# Altium integrated library TI Amplifiers and Linear Special Function Amplifier.IntLib: 708 symbols (part 27 of 47)
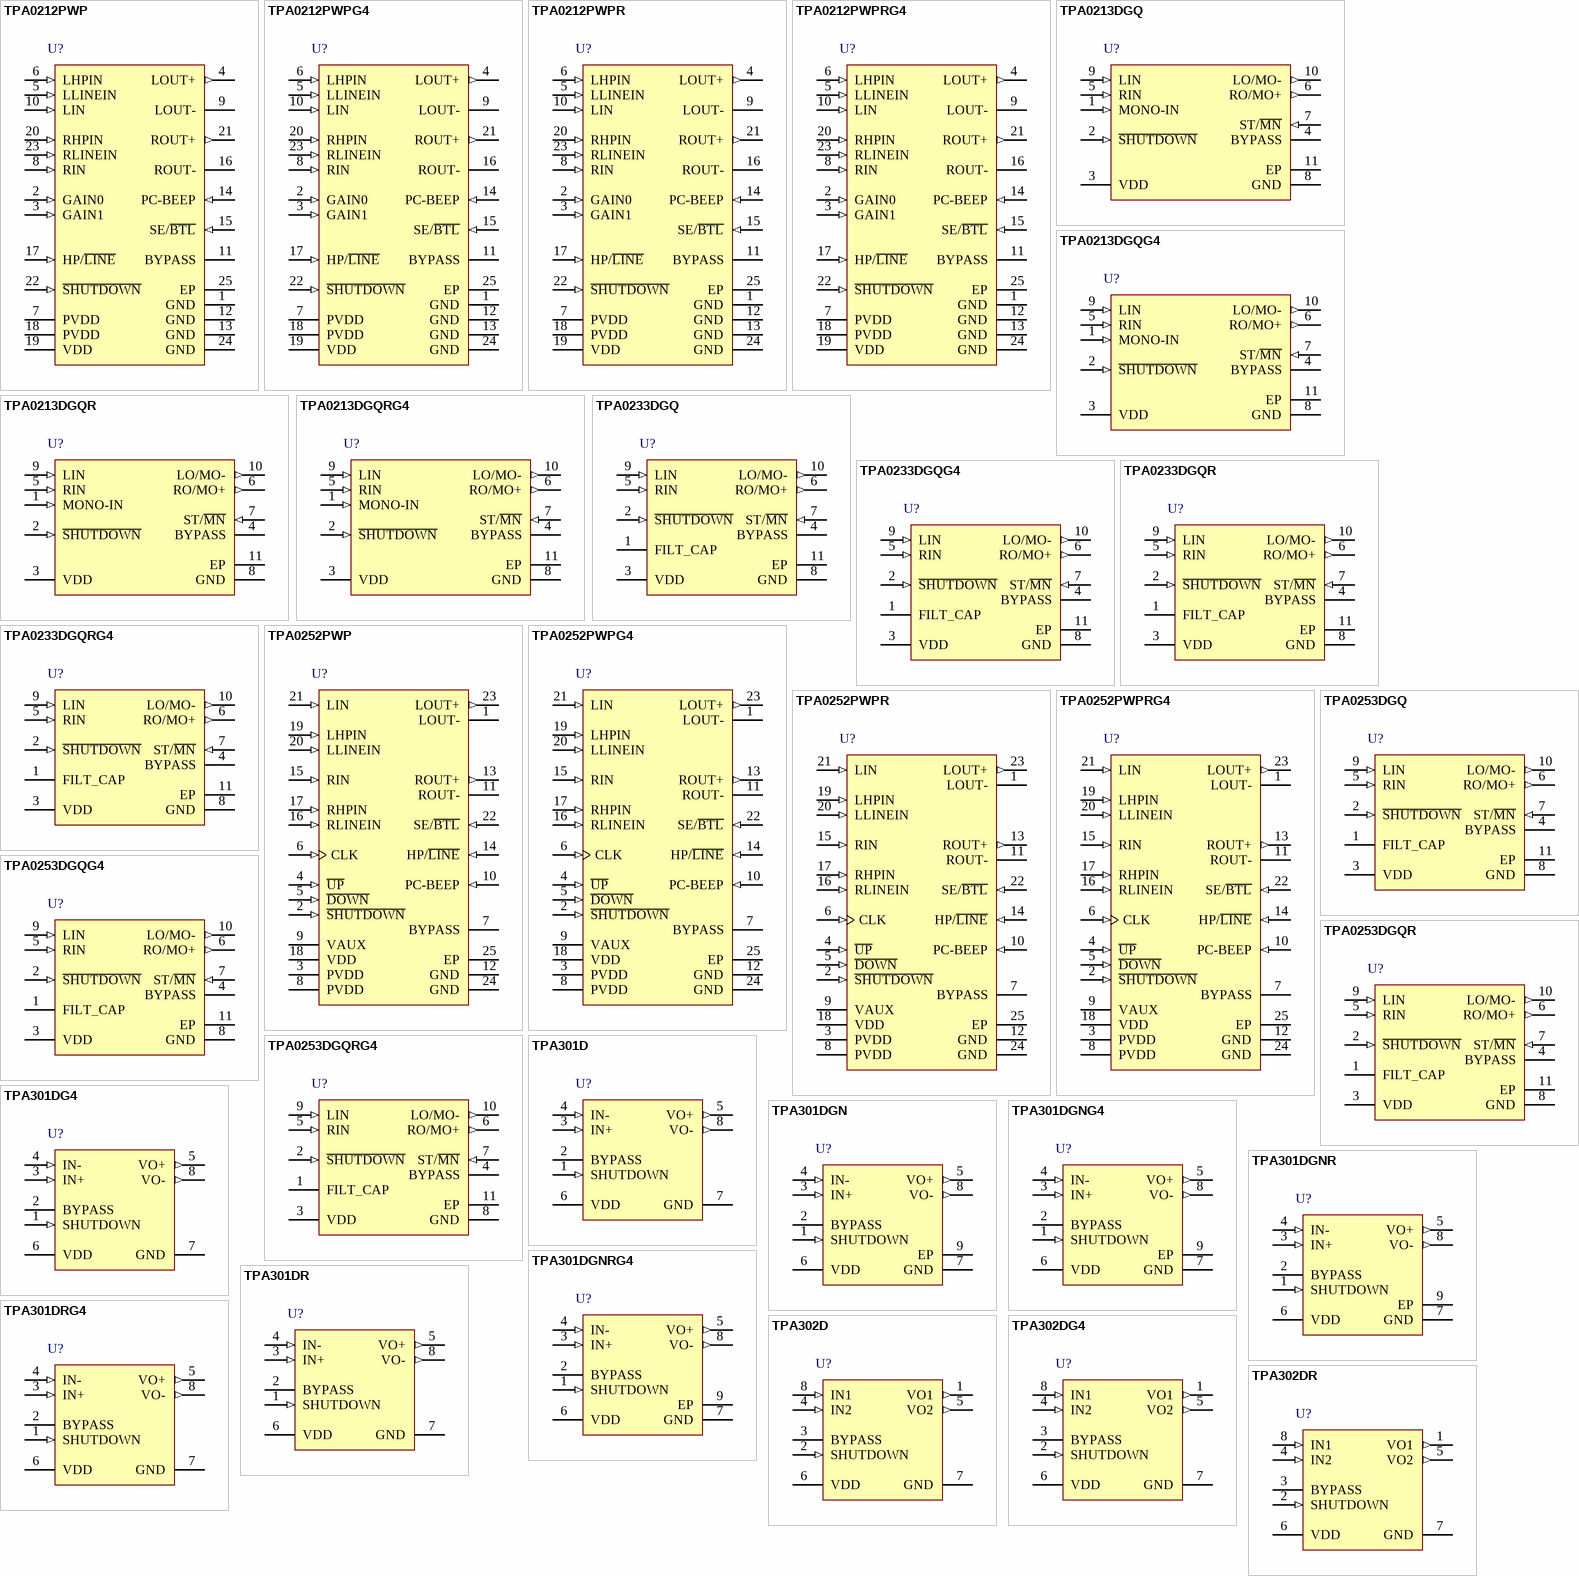
[diagram p65: symbols TPA0212PWP to TPA302DR]

## TPA301DGNR
designator U?
350-mW Mono Class-AB Audio Amplifier, -40 to 85 degC, 8-pin SOP (DGN8), Green (RoHS & no Sb/Br); Manufacturer: Texas Instruments; PartNumber: TPA301DGNR; Output Power(W): 0.35; PSRR(dB): 78; SubFamily: Dynamic Speaker; Supply Max(Max)(Volt): 5.5; Supply Min(Min)(Volt): 2.5; DatasheetVersion: SLOS208E; PackageVersion: 4073271/F, 05/2011; PackageReference: DGN8-1760X1425TP; PackageDescription: 8-Pin Plastic Small Outline, Body 3 x 3 mm, Pitch 0.65 mm; Supplier 1: Digi-Key; Supplier Part Number 1: TPA301DGNR-ND; Supplier 2: Mouser; Supplier Part Number 2: 595-TPA301DGNR; Eco-Plan: Green (RoHS & no Sb/Br); Speaker Amp Type: Class-AB; Speaker Channels: Mono; Mounting Technology: Surface Mount; Code_JEDEC: MO-187; ComponentLink1Description: Manufacturer URL; ComponentLink1URL: http://www.ti.com/; ComponentLink2Description: Datasheet; ComponentLink2URL: http://www.ti.com/general/docs/lit/getliterature.tsp?genericPartNumber=TPA301&fileType=pdf; ComponentLink3Description: Package Specification; ComponentLink3URL: http://www.ti.com/litv/pdf/mpds046e
footprint TI-DGN8-1760X1425TP_N (SOP, 8-Leads, Body 3.1x3.1mm, Pitch 0.65mm, Thermal Pad 1.89x1.57mm, IPC Medium Density)
footprint TI-DGN8-1760X1425TP_L (SOP, 8-Leads, Body 3.1x3.1mm, Pitch 0.65mm, Thermal Pad 1.89x1.57mm, IPC High Density)
footprint TI-DGN8-1760X1425TP_M (SOP, 8-Leads, Body 3.1x3.1mm, Pitch 0.65mm, Thermal Pad 1.89x1.57mm, IPC Low Density)
pins: 1 SHUTDOWN (in) "SHUTDOWN places the entire device in shutdown mode when held high.", 2 BYPASS "BYPASS is the tap to the voltage divider for internal mid-supply bias.", 3 IN+ (in) "IN+ is the noninverting input. IN+ is typically tied to the BYPASS terminal.", 4 IN- (in) "IN- is the inverting input. IN- is typically used as the audio input terminal.", 5 VO+ (out) "VO+ is the positive BTL output.", 6 VDD (power) "VDD is the supply voltage terminal.", 7 GND (power) "GND is the ground connection.", 8 VO- (out) "VO- is the negative BTL output.", 9 EP

## TPA301DGNRG4
designator U?
350-mW Mono Class-AB Audio Amplifier, -40 to 85 degC, 8-pin SOP (DGN8), Green (RoHS & no Sb/Br); Manufacturer: Texas Instruments; PartNumber: TPA301DGNRG4; Output Power(W): 0.35; PSRR(dB): 78; SubFamily: Dynamic Speaker; Supply Max(Max)(Volt): 5.5; Supply Min(Min)(Volt): 2.5; DatasheetVersion: SLOS208E; PackageVersion: 4073271/F, 05/2011; PackageReference: DGN8-1760X1425TP; PackageDescription: 8-Pin Plastic Small Outline, Body 3 x 3 mm, Pitch 0.65 mm; Supplier 1: Digi-Key; Supplier Part Number 1: TPA301DGNRG4-ND; Supplier 2: Mouser; Supplier Part Number 2: 595-TPA301DGNRG4; Eco-Plan: Green (RoHS & no Sb/Br); Speaker Amp Type: Class-AB; Speaker Channels: Mono; Mounting Technology: Surface Mount; Code_JEDEC: MO-187; ComponentLink1Description: Manufacturer URL; ComponentLink1URL: http://www.ti.com/; ComponentLink2Description: Datasheet; ComponentLink2URL: http://www.ti.com/general/docs/lit/getliterature.tsp?genericPartNumber=TPA301&fileType=pdf; ComponentLink3Description: Package Specification; ComponentLink3URL: http://www.ti.com/litv/pdf/mpds046e
footprint TI-DGN8-1760X1425TP_N (SOP, 8-Leads, Body 3.1x3.1mm, Pitch 0.65mm, Thermal Pad 1.89x1.57mm, IPC Medium Density)
footprint TI-DGN8-1760X1425TP_L (SOP, 8-Leads, Body 3.1x3.1mm, Pitch 0.65mm, Thermal Pad 1.89x1.57mm, IPC High Density)
footprint TI-DGN8-1760X1425TP_M (SOP, 8-Leads, Body 3.1x3.1mm, Pitch 0.65mm, Thermal Pad 1.89x1.57mm, IPC Low Density)
pins: 1 SHUTDOWN (in) "SHUTDOWN places the entire device in shutdown mode when held high.", 2 BYPASS "BYPASS is the tap to the voltage divider for internal mid-supply bias.", 3 IN+ (in) "IN+ is the noninverting input. IN+ is typically tied to the BYPASS terminal.", 4 IN- (in) "IN- is the inverting input. IN- is typically used as the audio input terminal.", 5 VO+ (out) "VO+ is the positive BTL output.", 6 VDD (power) "VDD is the supply voltage terminal.", 7 GND (power) "GND is the ground connection.", 8 VO- (out) "VO- is the negative BTL output.", 9 EP

## TPA301DR
designator U?
350-mW Mono Class-AB Audio Amplifier, -40 to 85 degC, 8-pin SOIC (D8), Green (RoHS & no Sb/Br); Manufacturer: Texas Instruments; PartNumber: TPA301DR; Output Power(W): 0.35; PSRR(dB): 78; SubFamily: Dynamic Speaker; Supply Max(Max)(Volt): 5.5; Supply Min(Min)(Volt): 2.5; DatasheetVersion: SLOS208E; PackageVersion: 4040047-3/M, 06/2011; PackageReference: D8; PackageDescription: 8-Pin Plastic Small Outline, Body 4.9 x 3.9 mm, Pitch 1.27 mm; Supplier 1: Digi-Key; Supplier Part Number 1: 296-1945-2-ND; Supplier 2: Digi-Key; Supplier Part Number 2: 296-1945-1-ND; Supplier 3: Digi-Key; Supplier Part Number 3: 296-1945-6-ND; Supplier 4: Newark; Supplier Part Number 4: 86W6301; Supplier 5: Newark; Supplier Part Number 5: 76C9795; Supplier 6: Mouser; Supplier Part Number 6: 595-TPA301DR; Eco-Plan: Green (RoHS & no Sb/Br); Speaker Amp Type: Class-AB; Speaker Channels: Mono; Mounting Technology: Surface Mount; Code_JEDEC: MS-012; ComponentLink1Description: Manufacturer URL; ComponentLink1URL: http://www.ti.com/; ComponentLink2Description: Datasheet; ComponentLink2URL: http://www.ti.com/general/docs/lit/getliterature.tsp?genericPartNumber=TPA301&fileType=pdf; ComponentLink3Description: Package Specification; ComponentLink3URL: http://www.ti.com/litv/pdf/msoi002j
footprint TI-D8_N (SOIC, 8-Leads, Body 5x4mm, Pitch 1.27mm, IPC Medium Density)
footprint TI-D8_L (SOIC, 8-Leads, Body 5x4mm, Pitch 1.27mm, IPC High Density)
footprint TI-D8_M (SOIC, 8-Leads, Body 5x4mm, Pitch 1.27mm, IPC Low Density)
pins: 1 SHUTDOWN (in) "SHUTDOWN places the entire device in shutdown mode when held high.", 2 BYPASS "BYPASS is the tap to the voltage divider for internal mid-supply bias. This terminal should be connected to a 0.1-uF to 2.2-uF capacitor when used as an audio amplifier.", 3 IN+ (in) "IN+ is the noninverting input. IN+ is typically tied to the BYPASS terminal.", 4 IN- (in) "IN- is the inverting input. IN- is typically used as the audio input terminal.", 5 VO+ (out) "VO+ is the positive BTL output.", 6 VDD (power) "VDD is the supply voltage terminal.", 7 GND (power) "GND is the ground connection.", 8 VO- (out) "VO- is the negative BTL output."

## TPA301DRG4
designator U?
350-mW Mono Class-AB Audio Amplifier, -40 to 85 degC, 8-pin SOIC (D8), Green (RoHS & no Sb/Br); Manufacturer: Texas Instruments; PartNumber: TPA301DRG4; Output Power(W): 0.35; PSRR(dB): 78; SubFamily: Dynamic Speaker; Supply Max(Max)(Volt): 5.5; Supply Min(Min)(Volt): 2.5; DatasheetVersion: SLOS208E; PackageVersion: 4040047-3/M, 06/2011; PackageReference: D8; PackageDescription: 8-Pin Plastic Small Outline, Body 4.9 x 3.9 mm, Pitch 1.27 mm; Supplier 1: Digi-Key; Supplier Part Number 1: TPA301DRG4-ND; Supplier 2: Newark; Supplier Part Number 2: 54K1489; Supplier 3: Mouser; Supplier Part Number 3: 595-TPA301DRG4; Eco-Plan: Green (RoHS & no Sb/Br); Speaker Amp Type: Class-AB; Speaker Channels: Mono; Mounting Technology: Surface Mount; Code_JEDEC: MS-012; ComponentLink1Description: Manufacturer URL; ComponentLink1URL: http://www.ti.com/; ComponentLink2Description: Datasheet; ComponentLink2URL: http://www.ti.com/general/docs/lit/getliterature.tsp?genericPartNumber=TPA301&fileType=pdf; ComponentLink3Description: Package Specification; ComponentLink3URL: http://www.ti.com/litv/pdf/msoi002j
footprint TI-D8_N (SOIC, 8-Leads, Body 5x4mm, Pitch 1.27mm, IPC Medium Density)
footprint TI-D8_L (SOIC, 8-Leads, Body 5x4mm, Pitch 1.27mm, IPC High Density)
footprint TI-D8_M (SOIC, 8-Leads, Body 5x4mm, Pitch 1.27mm, IPC Low Density)
pins: 1 SHUTDOWN (in) "SHUTDOWN places the entire device in shutdown mode when held high.", 2 BYPASS "BYPASS is the tap to the voltage divider for internal mid-supply bias. This terminal should be connected to a 0.1-uF to 2.2-uF capacitor when used as an audio amplifier.", 3 IN+ (in) "IN+ is the noninverting input. IN+ is typically tied to the BYPASS terminal.", 4 IN- (in) "IN- is the inverting input. IN- is typically used as the audio input terminal.", 5 VO+ (out) "VO+ is the positive BTL output.", 6 VDD (power) "VDD is the supply voltage terminal.", 7 GND (power) "GND is the ground connection.", 8 VO- (out) "VO- is the negative BTL output."

## TPA302D
designator U?
300-mW Stereo Class-AB Audio Amplifier, -40 to 85 degC, 8-pin SOIC (D8), Green (RoHS & no Sb/Br); Manufacturer: Texas Instruments; PartNumber: TPA302D; Output Power(W): 0.3; PSRR(dB): 65; SubFamily: Dynamic Speaker; Supply Max(Max)(Volt): 5.5; Supply Min(Min)(Volt): 2.7; DatasheetVersion: SLOS174C; PackageVersion: 4040047-3/M, 06/2011; PackageReference: D8; PackageDescription: 8-Pin Plastic Small Outline, Body 4.9 x 3.9 mm, Pitch 1.27 mm; Supplier 1: Digi-Key; Supplier Part Number 1: 296-7011-5-ND; Supplier 2: Newark; Supplier Part Number 2: 76C9797; Supplier 3: Mouser; Supplier Part Number 3: 595-TPA302D; Eco-Plan: Green (RoHS & no Sb/Br); Speaker Amp Type: Class-AB; Speaker Channels: Stereo; Mounting Technology: Surface Mount; Code_JEDEC: MS-012; ComponentLink1Description: Manufacturer URL; ComponentLink1URL: http://www.ti.com/; ComponentLink2Description: Datasheet; ComponentLink2URL: http://www.ti.com/general/docs/lit/getliterature.tsp?genericPartNumber=TPA302&fileType=pdf; ComponentLink3Description: Package Specification; ComponentLink3URL: http://www.ti.com/litv/pdf/msoi002j
footprint TI-D8_N (SOIC, 8-Leads, Body 5x4mm, Pitch 1.27mm, IPC Medium Density)
footprint TI-D8_L (SOIC, 8-Leads, Body 5x4mm, Pitch 1.27mm, IPC High Density)
footprint TI-D8_M (SOIC, 8-Leads, Body 5x4mm, Pitch 1.27mm, IPC Low Density)
pins: 1 VO1 (out), 2 SHUTDOWN (in), 3 BYPASS, 4 IN2 (in), 5 VO2 (out), 6 VDD (power), 7 GND (power), 8 IN1 (in)

## TPA302DG4
designator U?
300-mW Stereo Class-AB Audio Amplifier, -40 to 85 degC, 8-pin SOIC (D8), Green (RoHS & no Sb/Br); Manufacturer: Texas Instruments; PartNumber: TPA302DG4; Output Power(W): 0.3; PSRR(dB): 65; SubFamily: Dynamic Speaker; Supply Max(Max)(Volt): 5.5; Supply Min(Min)(Volt): 2.7; DatasheetVersion: SLOS174C; PackageVersion: 4040047-3/M, 06/2011; PackageReference: D8; PackageDescription: 8-Pin Plastic Small Outline, Body 4.9 x 3.9 mm, Pitch 1.27 mm; Supplier 1: Digi-Key; Supplier Part Number 1: TPA302DG4-ND; Supplier 2: Mouser; Supplier Part Number 2: 595-TPA302DG4; Eco-Plan: Green (RoHS & no Sb/Br); Speaker Amp Type: Class-AB; Speaker Channels: Stereo; Mounting Technology: Surface Mount; Code_JEDEC: MS-012; ComponentLink1Description: Manufacturer URL; ComponentLink1URL: http://www.ti.com/; ComponentLink2Description: Datasheet; ComponentLink2URL: http://www.ti.com/general/docs/lit/getliterature.tsp?genericPartNumber=TPA302&fileType=pdf; ComponentLink3Description: Package Specification; ComponentLink3URL: http://www.ti.com/litv/pdf/msoi002j
footprint TI-D8_N (SOIC, 8-Leads, Body 5x4mm, Pitch 1.27mm, IPC Medium Density)
footprint TI-D8_L (SOIC, 8-Leads, Body 5x4mm, Pitch 1.27mm, IPC High Density)
footprint TI-D8_M (SOIC, 8-Leads, Body 5x4mm, Pitch 1.27mm, IPC Low Density)
pins: 1 VO1 (out), 2 SHUTDOWN (in), 3 BYPASS, 4 IN2 (in), 5 VO2 (out), 6 VDD (power), 7 GND (power), 8 IN1 (in)

## TPA302DR
designator U?
300-mW Stereo Class-AB Audio Amplifier, -40 to 85 degC, 8-pin SOIC (D8), Green (RoHS & no Sb/Br); Manufacturer: Texas Instruments; PartNumber: TPA302DR; Output Power(W): 0.3; PSRR(dB): 65; SubFamily: Dynamic Speaker; Supply Max(Max)(Volt): 5.5; Supply Min(Min)(Volt): 2.7; DatasheetVersion: SLOS174C; PackageVersion: 4040047-3/M, 06/2011; PackageReference: D8; PackageDescription: 8-Pin Plastic Small Outline, Body 4.9 x 3.9 mm, Pitch 1.27 mm; Supplier 1: Digi-Key; Supplier Part Number 1: TPA302DR-ND; Supplier 2: Mouser; Supplier Part Number 2: 595-TPA302DR; Eco-Plan: Green (RoHS & no Sb/Br); Speaker Amp Type: Class-AB; Speaker Channels: Stereo; Mounting Technology: Surface Mount; Code_JEDEC: MS-012; ComponentLink1Description: Manufacturer URL; ComponentLink1URL: http://www.ti.com/; ComponentLink2Description: Datasheet; ComponentLink2URL: http://www.ti.com/general/docs/lit/getliterature.tsp?genericPartNumber=TPA302&fileType=pdf; ComponentLink3Description: Package Specification; ComponentLink3URL: http://www.ti.com/litv/pdf/msoi002j
footprint TI-D8_N (SOIC, 8-Leads, Body 5x4mm, Pitch 1.27mm, IPC Medium Density)
footprint TI-D8_L (SOIC, 8-Leads, Body 5x4mm, Pitch 1.27mm, IPC High Density)
footprint TI-D8_M (SOIC, 8-Leads, Body 5x4mm, Pitch 1.27mm, IPC Low Density)
pins: 1 VO1 (out), 2 SHUTDOWN (in), 3 BYPASS, 4 IN2 (in), 5 VO2 (out), 6 VDD (power), 7 GND (power), 8 IN1 (in)

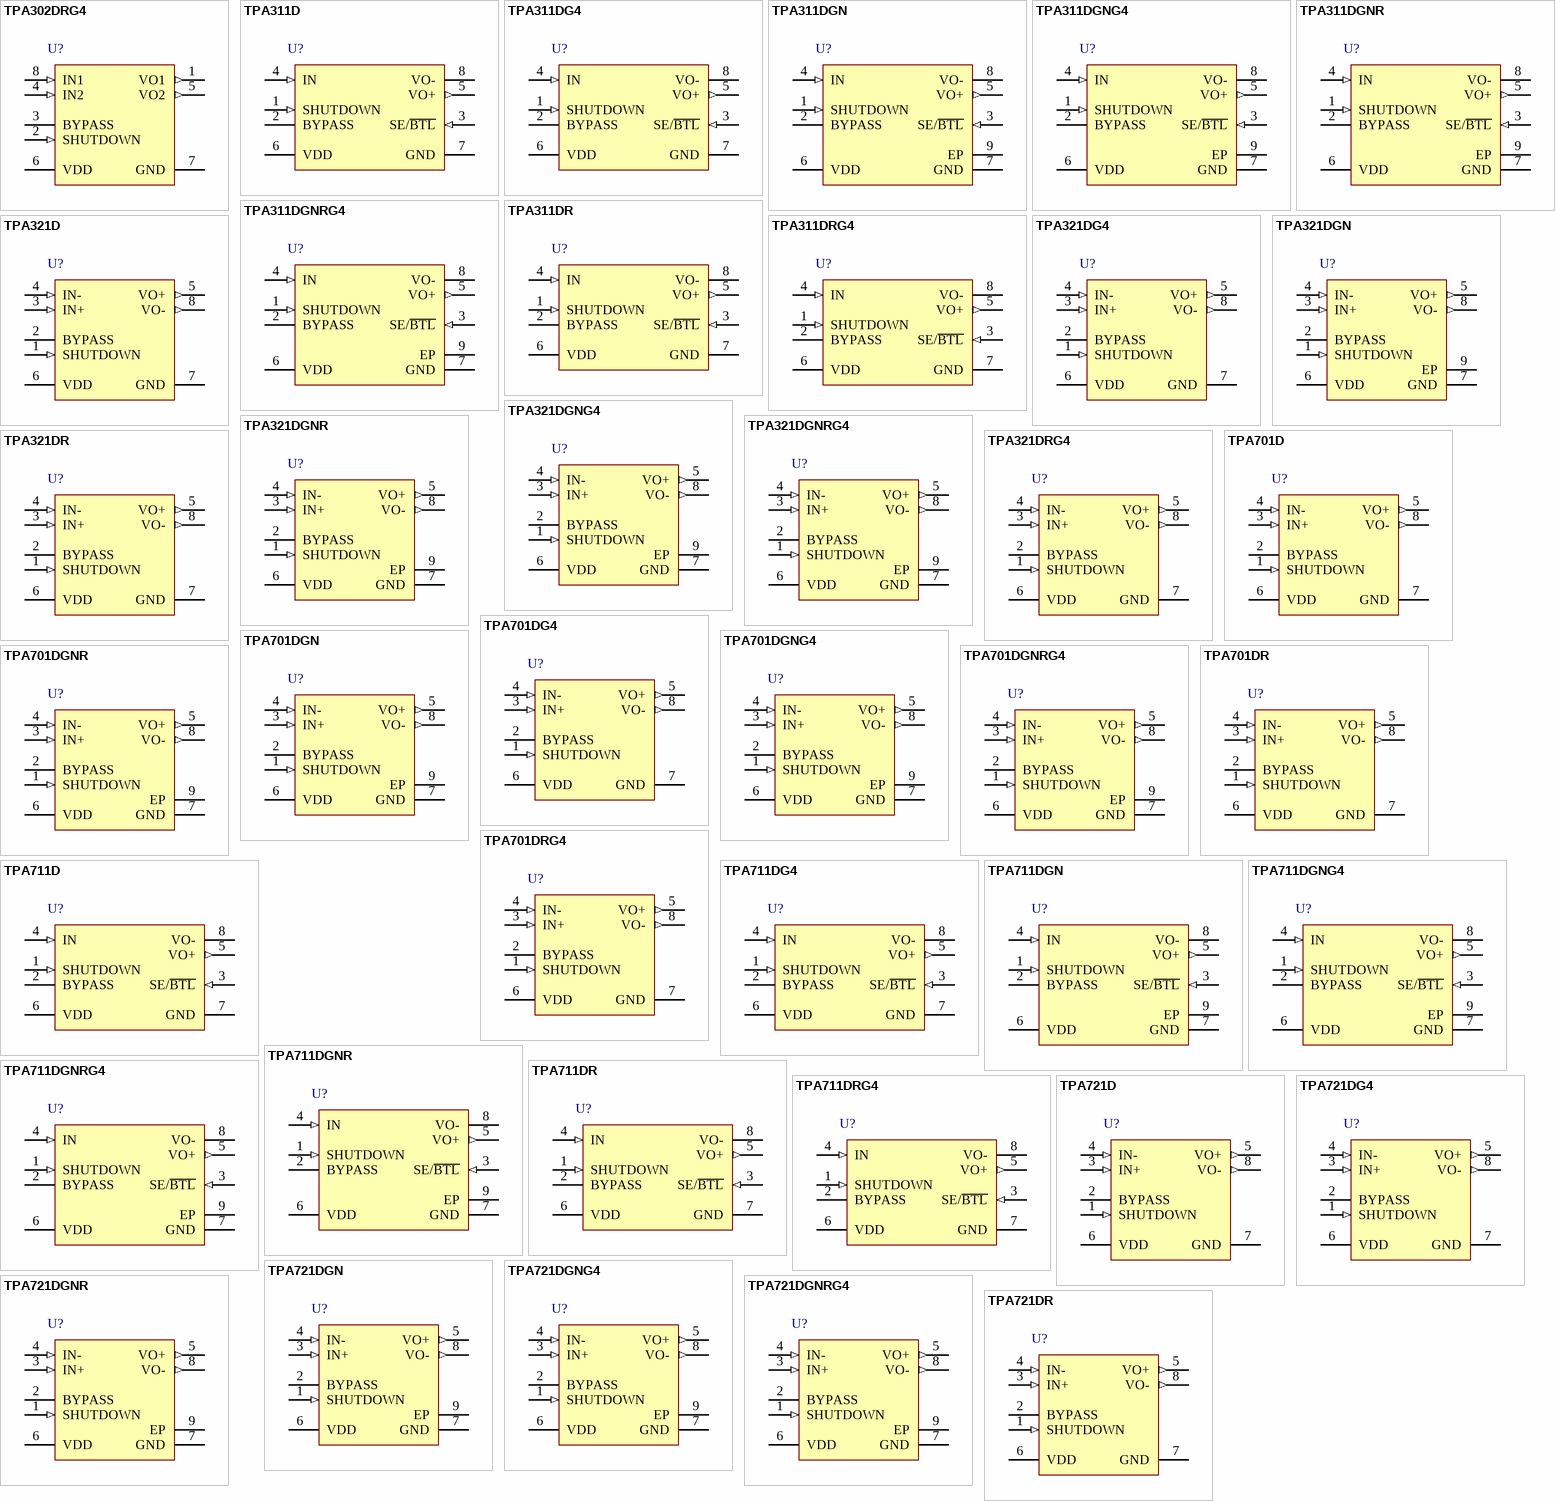
[diagram p25: symbols TPA302DRG4 to TPA721DR]

## TPA302DRG4
designator U?
300-mW Stereo Class-AB Audio Amplifier, -40 to 85 degC, 8-pin SOIC (D8), Green (RoHS & no Sb/Br); Manufacturer: Texas Instruments; PartNumber: TPA302DRG4; Output Power(W): 0.3; PSRR(dB): 65; SubFamily: Dynamic Speaker; Supply Max(Max)(Volt): 5.5; Supply Min(Min)(Volt): 2.7; DatasheetVersion: SLOS174C; PackageVersion: 4040047-3/M, 06/2011; PackageReference: D8; PackageDescription: 8-Pin Plastic Small Outline, Body 4.9 x 3.9 mm, Pitch 1.27 mm; Supplier 1: Digi-Key; Supplier Part Number 1: TPA302DRG4-ND; Supplier 2: Mouser; Supplier Part Number 2: 595-TPA302DRG4; Eco-Plan: Green (RoHS & no Sb/Br); Speaker Amp Type: Class-AB; Speaker Channels: Stereo; Mounting Technology: Surface Mount; Code_JEDEC: MS-012; ComponentLink1Description: Manufacturer URL; ComponentLink1URL: http://www.ti.com/; ComponentLink2Description: Datasheet; ComponentLink2URL: http://www.ti.com/general/docs/lit/getliterature.tsp?genericPartNumber=TPA302&fileType=pdf; ComponentLink3Description: Package Specification; ComponentLink3URL: http://www.ti.com/litv/pdf/msoi002j
footprint TI-D8_N (SOIC, 8-Leads, Body 5x4mm, Pitch 1.27mm, IPC Medium Density)
footprint TI-D8_L (SOIC, 8-Leads, Body 5x4mm, Pitch 1.27mm, IPC High Density)
footprint TI-D8_M (SOIC, 8-Leads, Body 5x4mm, Pitch 1.27mm, IPC Low Density)
pins: 1 VO1 (out), 2 SHUTDOWN (in), 3 BYPASS, 4 IN2 (in), 5 VO2 (out), 6 VDD (power), 7 GND (power), 8 IN1 (in)

## TPA311D
designator U?
350-mW Mono Class-AB Audio Amplifier, -40 to 85 degC, 8-pin SOIC (D8), Green (RoHS & no Sb/Br); Manufacturer: Texas Instruments; PartNumber: TPA311D; Output Power(W): 0.25; PSRR(dB): 85; SubFamily: Dynamic Speaker; Supply Max(Max)(Volt): 5.5; Supply Min(Min)(Volt): 2.5; DatasheetVersion: SLOS207C; PackageVersion: 4040047-3/M, 06/2011; PackageReference: D8; PackageDescription: 8-Pin Plastic Small Outline, Body 4.9 x 3.9 mm, Pitch 1.27 mm; Supplier 1: Digi-Key; Supplier Part Number 1: 296-1947-5-ND; Supplier 2: Newark; Supplier Part Number 2: 76C9800; Supplier 3: Mouser; Supplier Part Number 3: 595-TPA311D; Eco-Plan: Green (RoHS & no Sb/Br); Speaker Amp Type: Class-AB; Speaker Channels: Mono; Mounting Technology: Surface Mount; Code_JEDEC: MS-012; ComponentLink1Description: Manufacturer URL; ComponentLink1URL: http://www.ti.com/; ComponentLink2Description: Datasheet; ComponentLink2URL: http://www.ti.com/general/docs/lit/getliterature.tsp?genericPartNumber=TPA311&fileType=pdf; ComponentLink3Description: Package Specification; ComponentLink3URL: http://www.ti.com/litv/pdf/msoi002j
footprint TI-D8_N (SOIC, 8-Leads, Body 5x4mm, Pitch 1.27mm, IPC Medium Density)
footprint TI-D8_L (SOIC, 8-Leads, Body 5x4mm, Pitch 1.27mm, IPC High Density)
footprint TI-D8_M (SOIC, 8-Leads, Body 5x4mm, Pitch 1.27mm, IPC Low Density)
pins: 1 SHUTDOWN (in) "SHUTDOWN places the entire device in shutdown mode when held high.", 2 BYPASS "BYPASS is the tap to the voltage divider for internal mid-supply bias. This terminal should be connected to a capacitor when used as an audio amplifier.", 3 SE/~{BTL} (in) "When SE/B\T\L\ is held low, the TPAX11 is in BTL mode. When SE/B\T\L\ is held high, the TPAX11 is in SE mode.", 4 IN (in) "IN is the audio input terminal.", 5 VO+ (out) "VO+ is the positive output for BTL and SE modes.", 6 VDD (power) "VDD is the supply voltage terminal.", 7 GND (power) "GND is the ground connection.", 8 VO- (hiz) "VO- is the negative output in BTL mode and a high-impedance output in SE mode."

## TPA311DG4
designator U?
350-mW Mono Class-AB Audio Amplifier, -40 to 85 degC, 8-pin SOIC (D8), Green (RoHS & no Sb/Br); Manufacturer: Texas Instruments; PartNumber: TPA311DG4; Output Power(W): 0.25; PSRR(dB): 85; SubFamily: Dynamic Speaker; Supply Max(Max)(Volt): 5.5; Supply Min(Min)(Volt): 2.5; DatasheetVersion: SLOS207C; PackageVersion: 4040047-3/M, 06/2011; PackageReference: D8; PackageDescription: 8-Pin Plastic Small Outline, Body 4.9 x 3.9 mm, Pitch 1.27 mm; Supplier 1: Digi-Key; Supplier Part Number 1: TPA311DG4-ND; Supplier 2: Mouser; Supplier Part Number 2: 595-TPA311DG4; Eco-Plan: Green (RoHS & no Sb/Br); Speaker Amp Type: Class-AB; Speaker Channels: Mono; Mounting Technology: Surface Mount; Code_JEDEC: MS-012; ComponentLink1Description: Manufacturer URL; ComponentLink1URL: http://www.ti.com/; ComponentLink2Description: Datasheet; ComponentLink2URL: http://www.ti.com/general/docs/lit/getliterature.tsp?genericPartNumber=TPA311&fileType=pdf; ComponentLink3Description: Package Specification; ComponentLink3URL: http://www.ti.com/litv/pdf/msoi002j
footprint TI-D8_N (SOIC, 8-Leads, Body 5x4mm, Pitch 1.27mm, IPC Medium Density)
footprint TI-D8_L (SOIC, 8-Leads, Body 5x4mm, Pitch 1.27mm, IPC High Density)
footprint TI-D8_M (SOIC, 8-Leads, Body 5x4mm, Pitch 1.27mm, IPC Low Density)
pins: 1 SHUTDOWN (in) "SHUTDOWN places the entire device in shutdown mode when held high.", 2 BYPASS "BYPASS is the tap to the voltage divider for internal mid-supply bias. This terminal should be connected to a capacitor when used as an audio amplifier.", 3 SE/~{BTL} (in) "When SE/B\T\L\ is held low, the TPAX11 is in BTL mode. When SE/B\T\L\ is held high, the TPAX11 is in SE mode.", 4 IN (in) "IN is the audio input terminal.", 5 VO+ (out) "VO+ is the positive output for BTL and SE modes.", 6 VDD (power) "VDD is the supply voltage terminal.", 7 GND (power) "GND is the ground connection.", 8 VO- (hiz) "VO- is the negative output in BTL mode and a high-impedance output in SE mode."

## TPA311DGN
designator U?
350-mW Mono Class-AB Audio Amplifier, -40 to 85 degC, 8-pin SOP (DGN8), Green (RoHS & no Sb/Br); Manufacturer: Texas Instruments; PartNumber: TPA311DGN; Output Power(W): 0.25; PSRR(dB): 85; SubFamily: Dynamic Speaker; Supply Max(Max)(Volt): 5.5; Supply Min(Min)(Volt): 2.5; DatasheetVersion: SLOS207C; PackageVersion: 4073271/F, 05/2011; PackageReference: DGN8-1760X1425TP; PackageDescription: 8-Pin Plastic Small Outline, Body 3 x 3 mm, Pitch 0.65 mm; Supplier 1: Digi-Key; Supplier Part Number 1: 296-1948-5-ND; Supplier 2: Newark; Supplier Part Number 2: 76C9801; Supplier 3: Mouser; Supplier Part Number 3: 595-TPA311DGN; Eco-Plan: Green (RoHS & no Sb/Br); Speaker Amp Type: Class-AB; Speaker Channels: Mono; Mounting Technology: Surface Mount; Code_JEDEC: MO-187; ComponentLink1Description: Manufacturer URL; ComponentLink1URL: http://www.ti.com/; ComponentLink2Description: Datasheet; ComponentLink2URL: http://www.ti.com/general/docs/lit/getliterature.tsp?genericPartNumber=TPA311&fileType=pdf; ComponentLink3Description: Package Specification; ComponentLink3URL: http://www.ti.com/litv/pdf/mpds046e
footprint TI-DGN8-1760X1425TP_N (SOP, 8-Leads, Body 3.1x3.1mm, Pitch 0.65mm, Thermal Pad 1.89x1.57mm, IPC Medium Density)
footprint TI-DGN8-1760X1425TP_L (SOP, 8-Leads, Body 3.1x3.1mm, Pitch 0.65mm, Thermal Pad 1.89x1.57mm, IPC High Density)
footprint TI-DGN8-1760X1425TP_M (SOP, 8-Leads, Body 3.1x3.1mm, Pitch 0.65mm, Thermal Pad 1.89x1.57mm, IPC Low Density)
pins: 1 SHUTDOWN (in) "SHUTDOWN places the entire device in shutdown mode when held high", 2 BYPASS "BYPASS is the tap to the voltage divider for internal mid-supply bias.", 3 SE/~{BTL} (in) "When SE/B\T\L\ is held low, the TPA311 is in BTL mode. When SE/B\T\L\ is held high", 4 IN (in) "IN is the audio input terminal.", 5 VO+ (out) "VO+ is the positive output for BTL and SE modes.", 6 VDD (power) "VDD is the supply voltage terminal.", 7 GND (power) "GND is the ground connection.", 8 VO- (hiz) "VO- is the negative output in BTL mode and a high-impedance output in SE mode.", 9 EP

## TPA311DGNG4
designator U?
350-mW Mono Class-AB Audio Amplifier, -40 to 85 degC, 8-pin SOP (DGN8), Green (RoHS & no Sb/Br); Manufacturer: Texas Instruments; PartNumber: TPA311DGNG4; Output Power(W): 0.25; PSRR(dB): 85; SubFamily: Dynamic Speaker; Supply Max(Max)(Volt): 5.5; Supply Min(Min)(Volt): 2.5; DatasheetVersion: SLOS207C; PackageVersion: 4073271/F, 05/2011; PackageReference: DGN8-1760X1425TP; PackageDescription: 8-Pin Plastic Small Outline, Body 3 x 3 mm, Pitch 0.65 mm; Supplier 1: Digi-Key; Supplier Part Number 1: TPA311DGNG4-ND; Supplier 2: Mouser; Supplier Part Number 2: 595-TPA311DGNG4; Eco-Plan: Green (RoHS & no Sb/Br); Speaker Amp Type: Class-AB; Speaker Channels: Mono; Mounting Technology: Surface Mount; Code_JEDEC: MO-187; ComponentLink1Description: Manufacturer URL; ComponentLink1URL: http://www.ti.com/; ComponentLink2Description: Datasheet; ComponentLink2URL: http://www.ti.com/general/docs/lit/getliterature.tsp?genericPartNumber=TPA311&fileType=pdf; ComponentLink3Description: Package Specification; ComponentLink3URL: http://www.ti.com/litv/pdf/mpds046e
footprint TI-DGN8-1760X1425TP_N (SOP, 8-Leads, Body 3.1x3.1mm, Pitch 0.65mm, Thermal Pad 1.89x1.57mm, IPC Medium Density)
footprint TI-DGN8-1760X1425TP_L (SOP, 8-Leads, Body 3.1x3.1mm, Pitch 0.65mm, Thermal Pad 1.89x1.57mm, IPC High Density)
footprint TI-DGN8-1760X1425TP_M (SOP, 8-Leads, Body 3.1x3.1mm, Pitch 0.65mm, Thermal Pad 1.89x1.57mm, IPC Low Density)
pins: 1 SHUTDOWN (in) "SHUTDOWN places the entire device in shutdown mode when held high", 2 BYPASS "BYPASS is the tap to the voltage divider for internal mid-supply bias.", 3 SE/~{BTL} (in) "When SE/B\T\L\ is held low, the TPA311 is in BTL mode. When SE/B\T\L\ is held high", 4 IN (in) "IN is the audio input terminal.", 5 VO+ (out) "VO+ is the positive output for BTL and SE modes.", 6 VDD (power) "VDD is the supply voltage terminal.", 7 GND (power) "GND is the ground connection.", 8 VO- (hiz) "VO- is the negative output in BTL mode and a high-impedance output in SE mode.", 9 EP

## TPA311DGNR
designator U?
350-mW Mono Class-AB Audio Amplifier, -40 to 85 degC, 8-pin SOP (DGN8), Green (RoHS & no Sb/Br); Manufacturer: Texas Instruments; PartNumber: TPA311DGNR; Output Power(W): 0.25; PSRR(dB): 85; SubFamily: Dynamic Speaker; Supply Max(Max)(Volt): 5.5; Supply Min(Min)(Volt): 2.5; DatasheetVersion: SLOS207C; PackageVersion: 4073271/F, 05/2011; PackageReference: DGN8-1760X1425TP; PackageDescription: 8-Pin Plastic Small Outline, Body 3 x 3 mm, Pitch 0.65 mm; Supplier 1: Digi-Key; Supplier Part Number 1: TPA311DGNR-ND; Supplier 2: Newark; Supplier Part Number 2: 76C9802; Supplier 3: Mouser; Supplier Part Number 3: 595-TPA311DGNR; Eco-Plan: Green (RoHS & no Sb/Br); Speaker Amp Type: Class-AB; Speaker Channels: Mono; Mounting Technology: Surface Mount; Code_JEDEC: MO-187; ComponentLink1Description: Manufacturer URL; ComponentLink1URL: http://www.ti.com/; ComponentLink2Description: Datasheet; ComponentLink2URL: http://www.ti.com/general/docs/lit/getliterature.tsp?genericPartNumber=TPA311&fileType=pdf; ComponentLink3Description: Package Specification; ComponentLink3URL: http://www.ti.com/litv/pdf/mpds046e
footprint TI-DGN8-1760X1425TP_N (SOP, 8-Leads, Body 3.1x3.1mm, Pitch 0.65mm, Thermal Pad 1.89x1.57mm, IPC Medium Density)
footprint TI-DGN8-1760X1425TP_L (SOP, 8-Leads, Body 3.1x3.1mm, Pitch 0.65mm, Thermal Pad 1.89x1.57mm, IPC High Density)
footprint TI-DGN8-1760X1425TP_M (SOP, 8-Leads, Body 3.1x3.1mm, Pitch 0.65mm, Thermal Pad 1.89x1.57mm, IPC Low Density)
pins: 1 SHUTDOWN (in) "SHUTDOWN places the entire device in shutdown mode when held high", 2 BYPASS "BYPASS is the tap to the voltage divider for internal mid-supply bias.", 3 SE/~{BTL} (in) "When SE/B\T\L\ is held low, the TPA311 is in BTL mode. When SE/B\T\L\ is held high", 4 IN (in) "IN is the audio input terminal.", 5 VO+ (out) "VO+ is the positive output for BTL and SE modes.", 6 VDD (power) "VDD is the supply voltage terminal.", 7 GND (power) "GND is the ground connection.", 8 VO- (hiz) "VO- is the negative output in BTL mode and a high-impedance output in SE mode.", 9 EP

## TPA311DGNRG4
designator U?
350-mW Mono Class-AB Audio Amplifier, -40 to 85 degC, 8-pin SOP (DGN8), Green (RoHS & no Sb/Br); Manufacturer: Texas Instruments; PartNumber: TPA311DGNRG4; Output Power(W): 0.25; PSRR(dB): 85; SubFamily: Dynamic Speaker; Supply Max(Max)(Volt): 5.5; Supply Min(Min)(Volt): 2.5; DatasheetVersion: SLOS207C; PackageVersion: 4073271/F, 05/2011; PackageReference: DGN8-1760X1425TP; PackageDescription: 8-Pin Plastic Small Outline, Body 3 x 3 mm, Pitch 0.65 mm; Supplier 1: Digi-Key; Supplier Part Number 1: TPA311DGNRG4-ND; Supplier 2: Mouser; Supplier Part Number 2: 595-TPA311DGNRG4; Eco-Plan: Green (RoHS & no Sb/Br); Speaker Amp Type: Class-AB; Speaker Channels: Mono; Mounting Technology: Surface Mount; Code_JEDEC: MO-187; ComponentLink1Description: Manufacturer URL; ComponentLink1URL: http://www.ti.com/; ComponentLink2Description: Datasheet; ComponentLink2URL: http://www.ti.com/general/docs/lit/getliterature.tsp?genericPartNumber=TPA311&fileType=pdf; ComponentLink3Description: Package Specification; ComponentLink3URL: http://www.ti.com/litv/pdf/mpds046e
footprint TI-DGN8-1760X1425TP_N (SOP, 8-Leads, Body 3.1x3.1mm, Pitch 0.65mm, Thermal Pad 1.89x1.57mm, IPC Medium Density)
footprint TI-DGN8-1760X1425TP_L (SOP, 8-Leads, Body 3.1x3.1mm, Pitch 0.65mm, Thermal Pad 1.89x1.57mm, IPC High Density)
footprint TI-DGN8-1760X1425TP_M (SOP, 8-Leads, Body 3.1x3.1mm, Pitch 0.65mm, Thermal Pad 1.89x1.57mm, IPC Low Density)
pins: 1 SHUTDOWN (in) "SHUTDOWN places the entire device in shutdown mode when held high", 2 BYPASS "BYPASS is the tap to the voltage divider for internal mid-supply bias.", 3 SE/~{BTL} (in) "When SE/B\T\L\ is held low, the TPA311 is in BTL mode. When SE/B\T\L\ is held high", 4 IN (in) "IN is the audio input terminal.", 5 VO+ (out) "VO+ is the positive output for BTL and SE modes.", 6 VDD (power) "VDD is the supply voltage terminal.", 7 GND (power) "GND is the ground connection.", 8 VO- (hiz) "VO- is the negative output in BTL mode and a high-impedance output in SE mode.", 9 EP

## TPA311DR
designator U?
350-mW Mono Class-AB Audio Amplifier, -40 to 85 degC, 8-pin SOIC (D8), Green (RoHS & no Sb/Br); Manufacturer: Texas Instruments; PartNumber: TPA311DR; Output Power(W): 0.25; PSRR(dB): 85; SubFamily: Dynamic Speaker; Supply Max(Max)(Volt): 5.5; Supply Min(Min)(Volt): 2.5; DatasheetVersion: SLOS207C; PackageVersion: 4040047-3/M, 06/2011; PackageReference: D8; PackageDescription: 8-Pin Plastic Small Outline, Body 4.9 x 3.9 mm, Pitch 1.27 mm; Supplier 1: Digi-Key; Supplier Part Number 1: 296-1947-2-ND; Supplier 2: Digi-Key; Supplier Part Number 2: 296-1947-1-ND; Supplier 3: Digi-Key; Supplier Part Number 3: 296-1947-6-ND; Supplier 4: Mouser; Supplier Part Number 4: 595-TPA311DR; Eco-Plan: Green (RoHS & no Sb/Br); Speaker Amp Type: Class-AB; Speaker Channels: Mono; Mounting Technology: Surface Mount; Code_JEDEC: MS-012; ComponentLink1Description: Manufacturer URL; ComponentLink1URL: http://www.ti.com/; ComponentLink2Description: Datasheet; ComponentLink2URL: http://www.ti.com/general/docs/lit/getliterature.tsp?genericPartNumber=TPA311&fileType=pdf; ComponentLink3Description: Package Specification; ComponentLink3URL: http://www.ti.com/litv/pdf/msoi002j
footprint TI-D8_N (SOIC, 8-Leads, Body 5x4mm, Pitch 1.27mm, IPC Medium Density)
footprint TI-D8_L (SOIC, 8-Leads, Body 5x4mm, Pitch 1.27mm, IPC High Density)
footprint TI-D8_M (SOIC, 8-Leads, Body 5x4mm, Pitch 1.27mm, IPC Low Density)
pins: 1 SHUTDOWN (in) "SHUTDOWN places the entire device in shutdown mode when held high.", 2 BYPASS "BYPASS is the tap to the voltage divider for internal mid-supply bias. This terminal should be connected to a capacitor when used as an audio amplifier.", 3 SE/~{BTL} (in) "When SE/B\T\L\ is held low, the TPAX11 is in BTL mode. When SE/B\T\L\ is held high, the TPAX11 is in SE mode.", 4 IN (in) "IN is the audio input terminal.", 5 VO+ (out) "VO+ is the positive output for BTL and SE modes.", 6 VDD (power) "VDD is the supply voltage terminal.", 7 GND (power) "GND is the ground connection.", 8 VO- (hiz) "VO- is the negative output in BTL mode and a high-impedance output in SE mode."

## TPA311DRG4
designator U?
350-mW Mono Class-AB Audio Amplifier, -40 to 85 degC, 8-pin SOIC (D8), Green (RoHS & no Sb/Br); Manufacturer: Texas Instruments; PartNumber: TPA311DRG4; Output Power(W): 0.25; PSRR(dB): 85; SubFamily: Dynamic Speaker; Supply Max(Max)(Volt): 5.5; Supply Min(Min)(Volt): 2.5; DatasheetVersion: SLOS207C; PackageVersion: 4040047-3/M, 06/2011; PackageReference: D8; PackageDescription: 8-Pin Plastic Small Outline, Body 4.9 x 3.9 mm, Pitch 1.27 mm; Supplier 1: Digi-Key; Supplier Part Number 1: TPA311DRG4-ND; Supplier 2: Mouser; Supplier Part Number 2: 595-TPA311DRG4; Eco-Plan: Green (RoHS & no Sb/Br); Speaker Amp Type: Class-AB; Speaker Channels: Mono; Mounting Technology: Surface Mount; Code_JEDEC: MS-012; ComponentLink1Description: Manufacturer URL; ComponentLink1URL: http://www.ti.com/; ComponentLink2Description: Datasheet; ComponentLink2URL: http://www.ti.com/general/docs/lit/getliterature.tsp?genericPartNumber=TPA311&fileType=pdf; ComponentLink3Description: Package Specification; ComponentLink3URL: http://www.ti.com/litv/pdf/msoi002j
footprint TI-D8_N (SOIC, 8-Leads, Body 5x4mm, Pitch 1.27mm, IPC Medium Density)
footprint TI-D8_L (SOIC, 8-Leads, Body 5x4mm, Pitch 1.27mm, IPC High Density)
footprint TI-D8_M (SOIC, 8-Leads, Body 5x4mm, Pitch 1.27mm, IPC Low Density)
pins: 1 SHUTDOWN (in) "SHUTDOWN places the entire device in shutdown mode when held high.", 2 BYPASS "BYPASS is the tap to the voltage divider for internal mid-supply bias. This terminal should be connected to a capacitor when used as an audio amplifier.", 3 SE/~{BTL} (in) "When SE/B\T\L\ is held low, the TPAX11 is in BTL mode. When SE/B\T\L\ is held high, the TPAX11 is in SE mode.", 4 IN (in) "IN is the audio input terminal.", 5 VO+ (out) "VO+ is the positive output for BTL and SE modes.", 6 VDD (power) "VDD is the supply voltage terminal.", 7 GND (power) "GND is the ground connection.", 8 VO- (hiz) "VO- is the negative output in BTL mode and a high-impedance output in SE mode."

## TPA321D
designator U?
350-mW Mono Class-AB Audio Amplifier with Differential Inputs, -40 to 85 degC, 8-pin SOIC (D8), Green (RoHS & no Sb/Br); Manufacturer: Texas Instruments; PartNumber: TPA321D; Output Power(W): 0.35; PSRR(dB): 85; SubFamily: Dynamic Speaker; Supply Max(Max)(Volt): 5.5; Supply Min(Min)(Volt): 2.5; DatasheetVersion: SLOS312C; PackageVersion: 4040047-3/M, 06/2011; PackageReference: D8; PackageDescription: 8-Pin Plastic Small Outline, Body 4.9 x 3.9 mm, Pitch 1.27 mm; Supplier 1: Digi-Key; Supplier Part Number 1: 296-7012-5-ND; Supplier 2: Farnell; Supplier Part Number 2: 1755374; Supplier 3: Newark; Supplier Part Number 3: 76C9806; Supplier 4: Mouser; Supplier Part Number 4: 595-TPA321D; Eco-Plan: Green (RoHS & no Sb/Br); Speaker Amp Type: Class-AB; Speaker Channels: Mono; Mounting Technology: Surface Mount; Code_JEDEC: MS-012; ComponentLink1Description: Manufacturer URL; ComponentLink1URL: http://www.ti.com/; ComponentLink2Description: Datasheet; ComponentLink2URL: http://www.ti.com/general/docs/lit/getliterature.tsp?genericPartNumber=TPA321&fileType=pdf; ComponentLink3Description: Package Specification; ComponentLink3URL: http://www.ti.com/litv/pdf/msoi002j
footprint TI-D8_N (SOIC, 8-Leads, Body 5x4mm, Pitch 1.27mm, IPC Medium Density)
footprint TI-D8_L (SOIC, 8-Leads, Body 5x4mm, Pitch 1.27mm, IPC High Density)
footprint TI-D8_M (SOIC, 8-Leads, Body 5x4mm, Pitch 1.27mm, IPC Low Density)
pins: 1 SHUTDOWN (in) "SHUTDOWN places the entire device in shutdown mode when held high.", 2 BYPASS "BYPASS is the tap to the voltage divider for internal mid-supply bias. This terminal should be connected to a 0.1-uF to 2.2-uF capacitor when used as an audio amplifier.", 3 IN+ (in) "IN+ is the noninverting input. IN+ is typically tied to the BYPASS terminal.", 4 IN- (in) "IN- is the inverting input. IN- is typically used as the audio input terminal.", 5 VO+ (out) "VO+ is the positive BTL output.", 6 VDD (power) "VDD is the supply voltage terminal.", 7 GND (power) "GND is the ground connection.", 8 VO- (out) "VO- is the negative BTL output."

## TPA321DG4
designator U?
350-mW Mono Class-AB Audio Amplifier with Differential Inputs, -40 to 85 degC, 8-pin SOIC (D8), Green (RoHS & no Sb/Br); Manufacturer: Texas Instruments; PartNumber: TPA321DG4; Output Power(W): 0.35; PSRR(dB): 85; SubFamily: Dynamic Speaker; Supply Max(Max)(Volt): 5.5; Supply Min(Min)(Volt): 2.5; DatasheetVersion: SLOS312C; PackageVersion: 4040047-3/M, 06/2011; PackageReference: D8; PackageDescription: 8-Pin Plastic Small Outline, Body 4.9 x 3.9 mm, Pitch 1.27 mm; Supplier 1: Digi-Key; Supplier Part Number 1: 296-27980-5-ND; Supplier 2: Mouser; Supplier Part Number 2: 595-TPA321DG4; Eco-Plan: Green (RoHS & no Sb/Br); Speaker Amp Type: Class-AB; Speaker Channels: Mono; Mounting Technology: Surface Mount; Code_JEDEC: MS-012; ComponentLink1Description: Manufacturer URL; ComponentLink1URL: http://www.ti.com/; ComponentLink2Description: Datasheet; ComponentLink2URL: http://www.ti.com/general/docs/lit/getliterature.tsp?genericPartNumber=TPA321&fileType=pdf; ComponentLink3Description: Package Specification; ComponentLink3URL: http://www.ti.com/litv/pdf/msoi002j
footprint TI-D8_N (SOIC, 8-Leads, Body 5x4mm, Pitch 1.27mm, IPC Medium Density)
footprint TI-D8_L (SOIC, 8-Leads, Body 5x4mm, Pitch 1.27mm, IPC High Density)
footprint TI-D8_M (SOIC, 8-Leads, Body 5x4mm, Pitch 1.27mm, IPC Low Density)
pins: 1 SHUTDOWN (in) "SHUTDOWN places the entire device in shutdown mode when held high.", 2 BYPASS "BYPASS is the tap to the voltage divider for internal mid-supply bias. This terminal should be connected to a 0.1-uF to 2.2-uF capacitor when used as an audio amplifier.", 3 IN+ (in) "IN+ is the noninverting input. IN+ is typically tied to the BYPASS terminal.", 4 IN- (in) "IN- is the inverting input. IN- is typically used as the audio input terminal.", 5 VO+ (out) "VO+ is the positive BTL output.", 6 VDD (power) "VDD is the supply voltage terminal.", 7 GND (power) "GND is the ground connection.", 8 VO- (out) "VO- is the negative BTL output."

## TPA321DGN
designator U?
350-mW Mono Class-AB Audio Amplifier with Differential Inputs, -40 to 85 degC, 8-pin SOP (DGN8), Green (RoHS & no Sb/Br); Manufacturer: Texas Instruments; PartNumber: TPA321DGN; Output Power(W): 0.35; PSRR(dB): 85; SubFamily: Dynamic Speaker; Supply Max(Max)(Volt): 5.5; Supply Min(Min)(Volt): 2.5; DatasheetVersion: SLOS312C; PackageVersion: 4073271/F, 05/2011; PackageReference: DGN8-1760X1425TP; PackageDescription: 8-Pin Plastic Small Outline, Body 3 x 3 mm, Pitch 0.65 mm; Supplier 1: Digi-Key; Supplier Part Number 1: 296-12563-5-ND; Supplier 2: Newark; Supplier Part Number 2: 76C9807; Supplier 3: Mouser; Supplier Part Number 3: 595-TPA321DGN; Eco-Plan: Green (RoHS & no Sb/Br); Speaker Amp Type: Class-AB; Speaker Channels: Mono; Mounting Technology: Surface Mount; Code_JEDEC: MO-187; ComponentLink1Description: Manufacturer URL; ComponentLink1URL: http://www.ti.com/; ComponentLink2Description: Datasheet; ComponentLink2URL: http://www.ti.com/general/docs/lit/getliterature.tsp?genericPartNumber=TPA321&fileType=pdf; ComponentLink3Description: Package Specification; ComponentLink3URL: http://www.ti.com/litv/pdf/mpds046e
footprint TI-DGN8-1760X1425TP_N (SOP, 8-Leads, Body 3.1x3.1mm, Pitch 0.65mm, Thermal Pad 1.89x1.57mm, IPC Medium Density)
footprint TI-DGN8-1760X1425TP_L (SOP, 8-Leads, Body 3.1x3.1mm, Pitch 0.65mm, Thermal Pad 1.89x1.57mm, IPC High Density)
footprint TI-DGN8-1760X1425TP_M (SOP, 8-Leads, Body 3.1x3.1mm, Pitch 0.65mm, Thermal Pad 1.89x1.57mm, IPC Low Density)
pins: 1 SHUTDOWN (in) "SHUTDOWN places the entire device in shutdown mode when held high.", 2 BYPASS "BYPASS is the tap to the voltage divider for internal mid-supply bias.", 3 IN+ (in) "IN+ is the noninverting input. IN+ is typically tied to the BYPASS terminal.", 4 IN- (in) "IN- is the inverting input. IN- is typically used as the audio input terminal.", 5 VO+ (out) "VO+ is the positive BTL output.", 6 VDD (power) "VDD is the supply voltage terminal.", 7 GND (power) "GND is the ground connection.", 8 VO- (out) "VO- is the negative BTL output.", 9 EP

## TPA321DGNG4
designator U?
350-mW Mono Class-AB Audio Amplifier with Differential Inputs, -40 to 85 degC, 8-pin SOP (DGN8), Green (RoHS & no Sb/Br); Manufacturer: Texas Instruments; PartNumber: TPA321DGNG4; Output Power(W): 0.35; PSRR(dB): 85; SubFamily: Dynamic Speaker; Supply Max(Max)(Volt): 5.5; Supply Min(Min)(Volt): 2.5; DatasheetVersion: SLOS312C; PackageVersion: 4073271/F, 05/2011; PackageReference: DGN8-1760X1425TP; PackageDescription: 8-Pin Plastic Small Outline, Body 3 x 3 mm, Pitch 0.65 mm; Supplier 1: Digi-Key; Supplier Part Number 1: TPA321DGNG4-ND; Supplier 2: Mouser; Supplier Part Number 2: 595-TPA321DGNG4; Eco-Plan: Green (RoHS & no Sb/Br); Speaker Amp Type: Class-AB; Speaker Channels: Mono; Mounting Technology: Surface Mount; Code_JEDEC: MO-187; ComponentLink1Description: Manufacturer URL; ComponentLink1URL: http://www.ti.com/; ComponentLink2Description: Datasheet; ComponentLink2URL: http://www.ti.com/general/docs/lit/getliterature.tsp?genericPartNumber=TPA321&fileType=pdf; ComponentLink3Description: Package Specification; ComponentLink3URL: http://www.ti.com/litv/pdf/mpds046e
footprint TI-DGN8-1760X1425TP_N (SOP, 8-Leads, Body 3.1x3.1mm, Pitch 0.65mm, Thermal Pad 1.89x1.57mm, IPC Medium Density)
footprint TI-DGN8-1760X1425TP_L (SOP, 8-Leads, Body 3.1x3.1mm, Pitch 0.65mm, Thermal Pad 1.89x1.57mm, IPC High Density)
footprint TI-DGN8-1760X1425TP_M (SOP, 8-Leads, Body 3.1x3.1mm, Pitch 0.65mm, Thermal Pad 1.89x1.57mm, IPC Low Density)
pins: 1 SHUTDOWN (in) "SHUTDOWN places the entire device in shutdown mode when held high.", 2 BYPASS "BYPASS is the tap to the voltage divider for internal mid-supply bias.", 3 IN+ (in) "IN+ is the noninverting input. IN+ is typically tied to the BYPASS terminal.", 4 IN- (in) "IN- is the inverting input. IN- is typically used as the audio input terminal.", 5 VO+ (out) "VO+ is the positive BTL output.", 6 VDD (power) "VDD is the supply voltage terminal.", 7 GND (power) "GND is the ground connection.", 8 VO- (out) "VO- is the negative BTL output.", 9 EP

## TPA321DGNR
designator U?
350-mW Mono Class-AB Audio Amplifier with Differential Inputs, -40 to 85 degC, 8-pin SOP (DGN8), Green (RoHS & no Sb/Br); Manufacturer: Texas Instruments; PartNumber: TPA321DGNR; Output Power(W): 0.35; PSRR(dB): 85; SubFamily: Dynamic Speaker; Supply Max(Max)(Volt): 5.5; Supply Min(Min)(Volt): 2.5; DatasheetVersion: SLOS312C; PackageVersion: 4073271/F, 05/2011; PackageReference: DGN8-1760X1425TP; PackageDescription: 8-Pin Plastic Small Outline, Body 3 x 3 mm, Pitch 0.65 mm; Supplier 1: Digi-Key; Supplier Part Number 1: TPA321DGNR-ND; Supplier 2: Mouser; Supplier Part Number 2: 595-TPA321DGNR; Eco-Plan: Green (RoHS & no Sb/Br); Speaker Amp Type: Class-AB; Speaker Channels: Mono; Mounting Technology: Surface Mount; Code_JEDEC: MO-187; ComponentLink1Description: Manufacturer URL; ComponentLink1URL: http://www.ti.com/; ComponentLink2Description: Datasheet; ComponentLink2URL: http://www.ti.com/general/docs/lit/getliterature.tsp?genericPartNumber=TPA321&fileType=pdf; ComponentLink3Description: Package Specification; ComponentLink3URL: http://www.ti.com/litv/pdf/mpds046e
footprint TI-DGN8-1760X1425TP_N (SOP, 8-Leads, Body 3.1x3.1mm, Pitch 0.65mm, Thermal Pad 1.89x1.57mm, IPC Medium Density)
footprint TI-DGN8-1760X1425TP_L (SOP, 8-Leads, Body 3.1x3.1mm, Pitch 0.65mm, Thermal Pad 1.89x1.57mm, IPC High Density)
footprint TI-DGN8-1760X1425TP_M (SOP, 8-Leads, Body 3.1x3.1mm, Pitch 0.65mm, Thermal Pad 1.89x1.57mm, IPC Low Density)
pins: 1 SHUTDOWN (in) "SHUTDOWN places the entire device in shutdown mode when held high.", 2 BYPASS "BYPASS is the tap to the voltage divider for internal mid-supply bias.", 3 IN+ (in) "IN+ is the noninverting input. IN+ is typically tied to the BYPASS terminal.", 4 IN- (in) "IN- is the inverting input. IN- is typically used as the audio input terminal.", 5 VO+ (out) "VO+ is the positive BTL output.", 6 VDD (power) "VDD is the supply voltage terminal.", 7 GND (power) "GND is the ground connection.", 8 VO- (out) "VO- is the negative BTL output.", 9 EP

## TPA321DGNRG4
designator U?
350-mW Mono Class-AB Audio Amplifier with Differential Inputs, -40 to 85 degC, 8-pin SOP (DGN8), Green (RoHS & no Sb/Br); Manufacturer: Texas Instruments; PartNumber: TPA321DGNRG4; Output Power(W): 0.35; PSRR(dB): 85; SubFamily: Dynamic Speaker; Supply Max(Max)(Volt): 5.5; Supply Min(Min)(Volt): 2.5; DatasheetVersion: SLOS312C; PackageVersion: 4073271/F, 05/2011; PackageReference: DGN8-1760X1425TP; PackageDescription: 8-Pin Plastic Small Outline, Body 3 x 3 mm, Pitch 0.65 mm; Supplier 1: Digi-Key; Supplier Part Number 1: TPA321DGNRG4-ND; Supplier 2: Mouser; Supplier Part Number 2: 595-TPA321DGNRG4; Eco-Plan: Green (RoHS & no Sb/Br); Speaker Amp Type: Class-AB; Speaker Channels: Mono; Mounting Technology: Surface Mount; Code_JEDEC: MO-187; ComponentLink1Description: Manufacturer URL; ComponentLink1URL: http://www.ti.com/; ComponentLink2Description: Datasheet; ComponentLink2URL: http://www.ti.com/general/docs/lit/getliterature.tsp?genericPartNumber=TPA321&fileType=pdf; ComponentLink3Description: Package Specification; ComponentLink3URL: http://www.ti.com/litv/pdf/mpds046e
footprint TI-DGN8-1760X1425TP_N (SOP, 8-Leads, Body 3.1x3.1mm, Pitch 0.65mm, Thermal Pad 1.89x1.57mm, IPC Medium Density)
footprint TI-DGN8-1760X1425TP_L (SOP, 8-Leads, Body 3.1x3.1mm, Pitch 0.65mm, Thermal Pad 1.89x1.57mm, IPC High Density)
footprint TI-DGN8-1760X1425TP_M (SOP, 8-Leads, Body 3.1x3.1mm, Pitch 0.65mm, Thermal Pad 1.89x1.57mm, IPC Low Density)
pins: 1 SHUTDOWN (in) "SHUTDOWN places the entire device in shutdown mode when held high.", 2 BYPASS "BYPASS is the tap to the voltage divider for internal mid-supply bias.", 3 IN+ (in) "IN+ is the noninverting input. IN+ is typically tied to the BYPASS terminal.", 4 IN- (in) "IN- is the inverting input. IN- is typically used as the audio input terminal.", 5 VO+ (out) "VO+ is the positive BTL output.", 6 VDD (power) "VDD is the supply voltage terminal.", 7 GND (power) "GND is the ground connection.", 8 VO- (out) "VO- is the negative BTL output.", 9 EP

## TPA321DR
designator U?
350-mW Mono Class-AB Audio Amplifier with Differential Inputs, -40 to 85 degC, 8-pin SOIC (D8), Green (RoHS & no Sb/Br); Manufacturer: Texas Instruments; PartNumber: TPA321DR; Output Power(W): 0.35; PSRR(dB): 85; SubFamily: Dynamic Speaker; Supply Max(Max)(Volt): 5.5; Supply Min(Min)(Volt): 2.5; DatasheetVersion: SLOS312C; PackageVersion: 4040047-3/M, 06/2011; PackageReference: D8; PackageDescription: 8-Pin Plastic Small Outline, Body 4.9 x 3.9 mm, Pitch 1.27 mm; Supplier 1: Digi-Key; Supplier Part Number 1: TPA321DR-ND; Supplier 2: Newark; Supplier Part Number 2: 76C9809; Supplier 3: Mouser; Supplier Part Number 3: 595-TPA321DR; Eco-Plan: Green (RoHS & no Sb/Br); Speaker Amp Type: Class-AB; Speaker Channels: Mono; Mounting Technology: Surface Mount; Code_JEDEC: MS-012; ComponentLink1Description: Manufacturer URL; ComponentLink1URL: http://www.ti.com/; ComponentLink2Description: Datasheet; ComponentLink2URL: http://www.ti.com/general/docs/lit/getliterature.tsp?genericPartNumber=TPA321&fileType=pdf; ComponentLink3Description: Package Specification; ComponentLink3URL: http://www.ti.com/litv/pdf/msoi002j
footprint TI-D8_N (SOIC, 8-Leads, Body 5x4mm, Pitch 1.27mm, IPC Medium Density)
footprint TI-D8_L (SOIC, 8-Leads, Body 5x4mm, Pitch 1.27mm, IPC High Density)
footprint TI-D8_M (SOIC, 8-Leads, Body 5x4mm, Pitch 1.27mm, IPC Low Density)
pins: 1 SHUTDOWN (in) "SHUTDOWN places the entire device in shutdown mode when held high.", 2 BYPASS "BYPASS is the tap to the voltage divider for internal mid-supply bias. This terminal should be connected to a 0.1-uF to 2.2-uF capacitor when used as an audio amplifier.", 3 IN+ (in) "IN+ is the noninverting input. IN+ is typically tied to the BYPASS terminal.", 4 IN- (in) "IN- is the inverting input. IN- is typically used as the audio input terminal.", 5 VO+ (out) "VO+ is the positive BTL output.", 6 VDD (power) "VDD is the supply voltage terminal.", 7 GND (power) "GND is the ground connection.", 8 VO- (out) "VO- is the negative BTL output."

## TPA321DRG4
designator U?
350-mW Mono Class-AB Audio Amplifier with Differential Inputs, -40 to 85 degC, 8-pin SOIC (D8), Green (RoHS & no Sb/Br); Manufacturer: Texas Instruments; PartNumber: TPA321DRG4; Output Power(W): 0.35; PSRR(dB): 85; SubFamily: Dynamic Speaker; Supply Max(Max)(Volt): 5.5; Supply Min(Min)(Volt): 2.5; DatasheetVersion: SLOS312C; PackageVersion: 4040047-3/M, 06/2011; PackageReference: D8; PackageDescription: 8-Pin Plastic Small Outline, Body 4.9 x 3.9 mm, Pitch 1.27 mm; Supplier 1: Digi-Key; Supplier Part Number 1: TPA321DRG4-ND; Supplier 2: Mouser; Supplier Part Number 2: 595-TPA321DRG4; Eco-Plan: Green (RoHS & no Sb/Br); Speaker Amp Type: Class-AB; Speaker Channels: Mono; Mounting Technology: Surface Mount; Code_JEDEC: MS-012; ComponentLink1Description: Manufacturer URL; ComponentLink1URL: http://www.ti.com/; ComponentLink2Description: Datasheet; ComponentLink2URL: http://www.ti.com/general/docs/lit/getliterature.tsp?genericPartNumber=TPA321&fileType=pdf; ComponentLink3Description: Package Specification; ComponentLink3URL: http://www.ti.com/litv/pdf/msoi002j
footprint TI-D8_N (SOIC, 8-Leads, Body 5x4mm, Pitch 1.27mm, IPC Medium Density)
footprint TI-D8_L (SOIC, 8-Leads, Body 5x4mm, Pitch 1.27mm, IPC High Density)
footprint TI-D8_M (SOIC, 8-Leads, Body 5x4mm, Pitch 1.27mm, IPC Low Density)
pins: 1 SHUTDOWN (in) "SHUTDOWN places the entire device in shutdown mode when held high.", 2 BYPASS "BYPASS is the tap to the voltage divider for internal mid-supply bias. This terminal should be connected to a 0.1-uF to 2.2-uF capacitor when used as an audio amplifier.", 3 IN+ (in) "IN+ is the noninverting input. IN+ is typically tied to the BYPASS terminal.", 4 IN- (in) "IN- is the inverting input. IN- is typically used as the audio input terminal.", 5 VO+ (out) "VO+ is the positive BTL output.", 6 VDD (power) "VDD is the supply voltage terminal.", 7 GND (power) "GND is the ground connection.", 8 VO- (out) "VO- is the negative BTL output."

## TPA701D
designator U?
700-mW Mono, Class-AB Audio Amplifier, -40 to 85 degC, 8-pin SOIC (D8), Green (RoHS & no Sb/Br); Manufacturer: Texas Instruments; PartNumber: TPA701D; Output Power(W): 0.25; PSRR(dB): 85; SubFamily: Dynamic Speaker; Supply Max(Max)(Volt): 5.5; Supply Min(Min)(Volt): 2.5; DatasheetVersion: SLOS229D; PackageVersion: 4040047-3/M, 06/2011; PackageReference: D8; PackageDescription: 8-Pin Plastic Small Outline, Body 4.9 x 3.9 mm, Pitch 1.27 mm; Supplier 1: Digi-Key; Supplier Part Number 1: 296-1949-5-ND; Supplier 2: Newark; Supplier Part Number 2: 76C9854; Supplier 3: Mouser; Supplier Part Number 3: 595-TPA701D; Eco-Plan: Green (RoHS & no Sb/Br); Speaker Amp Type: Class-AB; Speaker Channels: Mono; Mounting Technology: Surface Mount; Code_JEDEC: MS-012; ComponentLink1Description: Manufacturer URL; ComponentLink1URL: http://www.ti.com/; ComponentLink2Description: Datasheet; ComponentLink2URL: http://www.ti.com/general/docs/lit/getliterature.tsp?genericPartNumber=TPA701&fileType=pdf; ComponentLink3Description: Package Specification; ComponentLink3URL: http://www.ti.com/litv/pdf/msoi002j
footprint TI-D8_N (SOIC, 8-Leads, Body 5x4mm, Pitch 1.27mm, IPC Medium Density)
footprint TI-D8_L (SOIC, 8-Leads, Body 5x4mm, Pitch 1.27mm, IPC High Density)
footprint TI-D8_M (SOIC, 8-Leads, Body 5x4mm, Pitch 1.27mm, IPC Low Density)
pins: 1 SHUTDOWN (in) "SHUTDOWN places the entire device in shutdown mode when held high.", 2 BYPASS "BYPASS is the tap to the voltage divider for internal mid-supply bias. This terminal should be connected to a 0.1-uF to 2.2-uF capacitor when used as an audio amplifier.", 3 IN+ (in) "IN+ is the noninverting input. IN+ is typically tied to the BYPASS terminal.", 4 IN- (in) "IN- is the inverting input. IN- is typically used as the audio input terminal.", 5 VO+ (out) "VO+ is the positive BTL output.", 6 VDD (power) "VDD is the supply voltage terminal.", 7 GND (power) "GND is the ground connection.", 8 VO- (out) "VO- is the negative BTL output."